# Altium schematic symbol library SFH_2770_A01.SchLib: 1 symbol
Pins are listed as number, name and electrical type; pins without a type are passive.

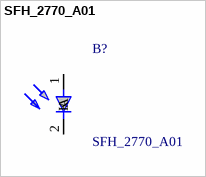
[diagram p0: symbol SFH_2770_A01]

## SFH_2770_A01
designator B?
Photodiode 560nm 500ns 0805 (2012 Metric); Manufacturer_Name: ams OSRAM; Manufacturer_Part_Number: SFH 2770 A01; Geometry.Height: 1mm; Mouser Part Number: *; Mouser Price/Stock: *; Arrow Part Number: *; Arrow Price/Stock: *; Datasheet Link: https://ams-osram.com/products/photodetectors/photodiodes/osram-chip-led-0805-sfh-2770-a01
footprint SFH2770A01
pins: 1 A, 2 K